# Altium footprint library 制冷系统控制板.PCBLIB: 44 footprints (part 1 of 3)
Each footprint in its own frame and in the unit in brackets; x right, y up, seen from the top. Pads: shape width x height; smd on the part's side, far side on the other; paste and mask are expansions set on the pad; w line width, h text height; cw(c..) or ccw(c..) is an arc to the next point about the centre after c.
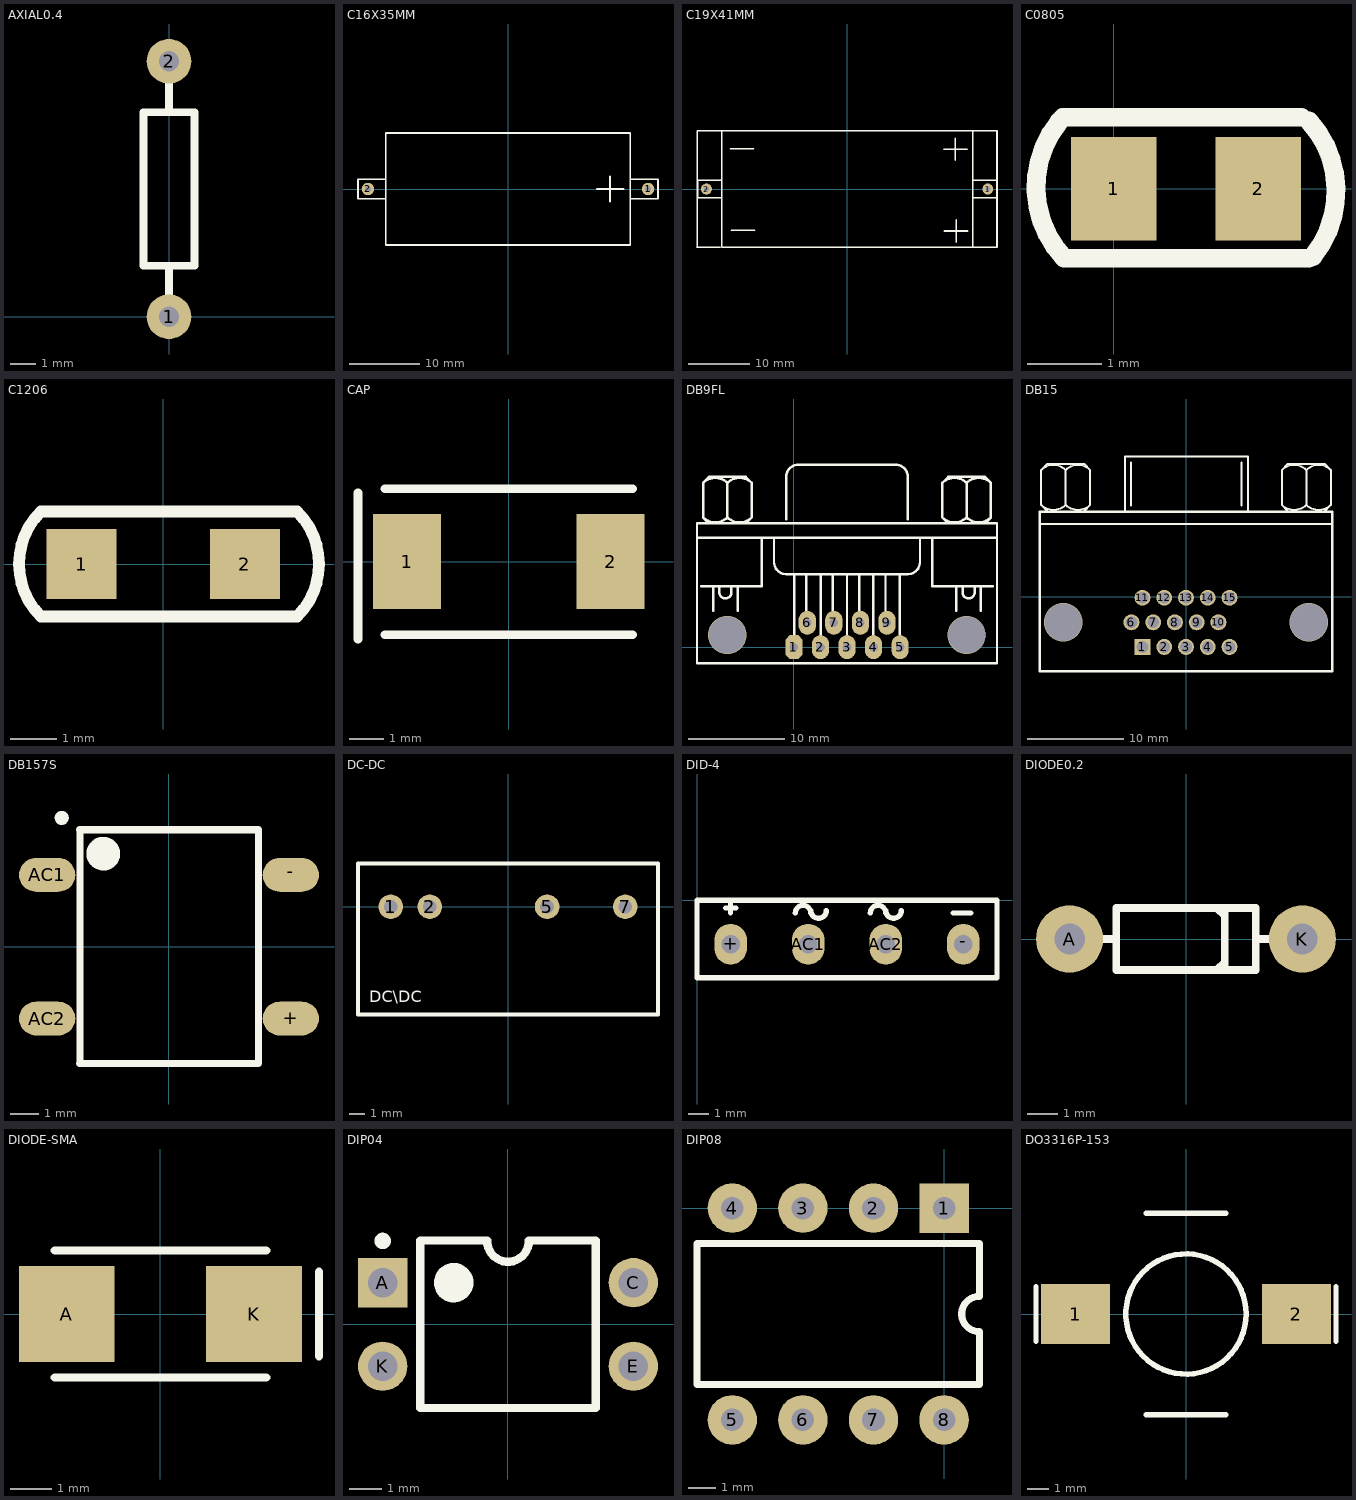
[diagram p0: the footprints below, top view; thin cyan lines are the x and y axes]

## AXIAL0.4 [mil]
pads (2):
  round 70 hole 32: 1(0,0.01) 2(0,400.01)
顶层丝印:
  lines w12: 0,0.01 0,80.01 ; 0,320.01 0,400.01 ; -40,80.01 40,80.01 40,320.01 -40,320.01 -40,80.01

## C16X35MM [mil]
pads (2):
  round 70 hole 32: 1(788.98,0.01) 2(-788.98,0.01)
顶层丝印:
  lines w10: -690,-54.99 -845,-54.99 -845,55.01 -690,55.01 ; 500,0.01 650,0.01 ; 575,-70.86 575,70.88 ; 695,-54.99 845,-54.99 845,55.01 695,55.01 ; -688.98,-314.95 688.98,-314.95 688.98,314.97 -688.98,314.97 -688.98,-314.95

## C19X41MM [mil]
pads (2):
  round 70 hole 32: 1(903.98,0) 2(-903.98,0)
顶层丝印:
  lines w10: -965,-374.99 -815,-374.99 ; -962.09,-374.02 -962.09,374.02 ; -960,375.01 -810,375.01 ; -805,-54.99 -960,-54.99 -960,55.01 -805,55.01 ; -750,260 -600,260 ; -745,-265 -595,-265 ; 620,255 770,255 ; 625,-270 775,-270 ; 695,184.14 695,325.88 ; 700,-340.86 700,-199.12 ; 810,-374.99 960,-374.99 ; 810,-54.99 960,-54.99 960,55.01 810,55.01 ; 810,375.01 960,375.01 ; 962.91,-374.02 962.91,374.02 ; -807.09,-374.02 807.09,-374.02 807.09,374.02 -807.09,374.02 -807.09,-374.02

## C0805 [mm]
pads (2):
  rect 1.152x1.4 smd: 1(0,0) 2(1.956,0)
顶层丝印:
  lines w0.127: 1.422,0.914 2.641,0.914
  lines w0.254: -0.737,0.906 ccw(c0.363,0.022) -0.67,-0.94 2.641,-0.94 ; -0.686,0.965 2.54,0.965 ; 2.641,0.914 cw(c1.593,-0.031) 2.692,-0.915

## C1206 [mil]
pads (2):
  rect 60x60 smd: 1(-70,0.01) 2(70,0.01)
顶层丝印:
  lines w10: -45,-44.99 115,-44.99 ccw(c70,0.01) 115,45.01 40,45.01 ; -40,-44.99 -105,-44.99 cw(c-60,0.01) -105,45.01 45,45.01

## CAP [mm]
pads (2):
  rect 2x2.8 smd: 1(-3,0) 2(3,0)
顶层丝印:
  lines w0.254: -4.445,-2.286 -4.445,2.032 ; -3.65,-2.15 3.65,-2.15 ; -3.65,2.15 3.65,2.15

## DB9FL [mm]
pads (9):
  oct 1.8x2.5 hole 0.9: 1(0,0)
  oval 1.8x2.5 hole 0.9: 2(2.773,0) 3(5.546,0) 4(8.318,0) 5(11.091,0) 6(1.397,2.54) 7(4.17,2.54) 8(6.943,2.54) 9(9.715,2.54)
via 18.034,1.27 diameter 4 hole 3.9
via -6.964,1.27 diameter 4 hole 3.9
顶层丝印:
  lines w0.254: -10.118,11.43 21.209,11.43 ; -9.694,6.35 -3.344,6.35 -3.344,11.43 ; -9.485,13.545 ccw(c-8.213,14.817) -6.94,13.545 ; -9.485,17.147 cw(c-8.213,15.875) -6.94,17.147 ; -8.848,12.912 -9.483,13.547 -9.483,17.145 -8.848,17.78 -5.038,17.78 -4.403,17.145 -4.403,13.547 -5.038,12.912 ; -8.424,3.81 -8.424,6.35 ; -7.789,6.35 -7.789,5.715 ccw(c-7.154,5.715) -6.519,5.715 -6.519,6.35 ; -6.945,13.545 ccw(c-5.673,14.817) -4.4,13.545 ; -6.945,17.147 cw(c-5.673,15.875) -4.4,17.147 ; -6.943,13.547 -6.943,17.145 ; -5.884,3.81 -5.884,6.35 ; -2.074,11.43 -2.074,8.89 ccw(c-0.804,8.89) -0.804,7.62 11.896,7.62 ccw(c11.896,8.89) 13.166,8.89 13.166,11.43 ; -0.804,13.335 -0.804,17.78 cw(c0.466,17.78) 0.466,19.05 10.626,19.05 cw(c10.626,17.78) 11.896,17.78 11.896,13.335 ; 0.042,1.27 0.042,7.62 ; 1.312,3.81 1.312,7.62 ; 2.794,1.27 2.794,7.62 ; 4.064,3.81 4.064,7.62 ; 5.546,1.27 5.546,7.62 ; 6.816,3.81 6.816,7.62 ; 8.297,1.27 8.297,7.62 ; 9.567,3.81 9.567,7.62 ; 11.049,1.27 11.049,7.62 ; 14.436,11.43 14.436,6.35 20.786,6.35 ; 15.492,13.545 ccw(c16.764,14.817) 18.036,13.545 ; 15.492,17.147 cw(c16.764,15.875) 18.036,17.147 ; 16.129,12.912 15.494,13.547 15.494,17.145 16.129,17.78 19.939,17.78 20.574,17.145 20.574,13.547 19.939,12.912 ; 16.976,3.81 16.976,6.35 ; 17.611,6.35 17.611,5.715 ccw(c18.246,5.715) 18.881,5.715 18.881,6.35 ; 18.032,13.545 ccw(c19.304,14.817) 20.576,13.545 ; 18.032,17.147 cw(c19.304,15.875) 20.576,17.147 ; 18.034,13.547 18.034,17.145 ; 19.516,3.81 19.516,6.35 ; -10.118,-1.693 21.209,-1.693 21.209,12.912 -10.118,12.912 -10.118,-1.693

## DB15 [mil]
pads (15):
  rect 65x65 hole 48: 1(-178.16,-205)
  round 65 hole 48: 2(-89.58,-205) 3(-1,-205) 4(87.58,-205) 5(176.16,-205) 6(-223.17,-105) 7(-134.58,-105) 8(-46,-105) 9(42.58,-105) 10(131.16,-105) 11(-178.16,-5) 12(-89.58,-5) 13(-1,-5) 14(87.58,-5) 15(176.16,-5)
via 499,-105 diameter 157.48 hole 153.54
via -501,-105 diameter 157.48 hole 153.54
顶层丝印:
  lines w8: -597.25,295 594,295 ; -591.09,373.25 ccw(c-541,423.33) -490.91,373.25 ; -591.09,515.09 cw(c-541,465) -490.91,515.09 ; -566,348.33 -591,373.33 -591,515 -566,540 -416,540 -391,515 -391,373.33 -416,348.33 ; -491.09,373.25 ccw(c-441,423.33) -390.91,373.25 ; -491.09,515.09 cw(c-441,465) -390.91,515.09 ; -491,373.33 -491,515 ; -249.33,345 -249.33,570 250.67,570 250.67,345 ; -224.33,370 -224.33,545 ; 225.67,370 225.67,545 ; 388.91,373.25 ccw(c439,423.33) 489.09,373.25 ; 388.91,515.09 cw(c439,465) 489.09,515.09 ; 414,348.33 389,373.33 389,515 414,540 564,540 589,515 589,373.33 564,348.33 ; 488.91,373.25 ccw(c539,423.33) 589.09,373.25 ; 488.91,515.09 cw(c539,465) 589.09,515.09 ; 489,373.33 489,515
  lines w10: -596,-305 -596,345 594,345 594,-305 -596,-305

## DB157S [mm]
pads (4):
  oval 2x1.2 smd: +(4.325,-2.55) -(4.325,2.55) AC1(-4.325,2.55) AC2(-4.325,-2.55)
顶层丝印:
  circle w0.25: c-3.808,4.572 r0.125
  circle w0.6: c-2.332,3.302 r0.3
  lines w0.254: -3.175,-4.15 3.175,-4.15 3.175,4.15 -3.175,4.15 ; -3.157,-4.15 -3.157,4.15

## DC-DC [mm]
pads (4):
  round 1.6 hole 0.889: 1(-7.62,0) 2(-5.08,0) 5(2.54,0) 7(7.62,0)
顶层丝印:
  lines w0.254: -9.75,-7 -9.75,2.8 9.75,2.8 9.75,-7 -9.75,-7
  text "DC\DC" at -9.017,-6.223 h0.76

## DID-4 [mm]
pads (4):
  oval 1.6x2 hole 0.9: +(1.651,-2.159) -(13.081,-2.159) AC1(5.461,-2.159) AC2(9.271,-2.159)
顶层丝印:
  lines w0.254: 1.397,-0.381 1.905,-0.381 ; 1.651,-0.635 1.651,-0.127 ; 4.826,-0.635 cw(c5.207,-0.635) 5.588,-0.635 ; 5.588,-0.508 ccw(c5.969,-0.508) 6.35,-0.508 ; 8.509,-0.635 cw(c8.89,-0.635) 9.271,-0.635 ; 9.271,-0.508 ccw(c9.652,-0.508) 10.033,-0.508 ; 12.573,-0.635 13.462,-0.635 ; 0,-3.81 14.732,-3.81 14.732,0 0,0 0,-3.81

## DIODE0.2 [mm]
pads (2):
  round 2.2 hole 1: A(-3.81,0) K(3.81,0)
顶层丝印:
  lines w0.254: -3.81,0 -2.286,0 ; 1.016,-1.016 1.27,-0.762 ; 1.016,1.016 1.27,0.762 ; 1.27,-1.016 1.27,1.016 ; 2.286,0 3.81,0 ; -2.286,-1.016 -2.286,1.016 2.286,1.016 2.286,-1.016 -2.286,-1.016

## DIODE-SMA [mm]
pads (2):
  rect 2.3x2.3 smd: A(-2.25,0) K(2.25,0)
顶层丝印:
  lines w0.2: -2.54,-1.524 2.54,-1.524 ; -2.54,1.524 2.54,1.524 ; 3.81,-1.016 3.81,1.016

## DIP04 [mm]
pads (4):
  rect 1.5x1.5 hole 0.9: A(-3.798,1.27)
  round 1.5 hole 0.9: C(3.822,1.27) E(3.822,-1.27) K(-3.798,-1.27)
顶层丝印:
  circle w0.25: c-3.798,2.54 r0.125
  circle w0.6: c-1.639,1.27 r0.3
  lines w0.254: -0.623,2.54 ccw(c0.012,2.54) 0.647,2.54 ; -0.623,2.55 -2.655,2.55 -2.655,-2.54 2.679,-2.54 2.679,2.55 0.647,2.55

## DIP08 [mil]
pads (8):
  rect 70x70 hole 32: 1(0,0.01)
  round 70 hole 32: 2(-100,0.01) 3(-200,0.01) 4(-300,0.01) 5(-300,-299.99) 6(-200,-299.99) 7(-100,-299.99) 8(0,-299.99)
顶层丝印:
  lines w10: -350,-249.99 -350,-49.99 50,-49.99 50,-124.99 ccw(c50,-149.99) 50,-174.99 50,-249.99 -350,-249.99

## DO3316P-153 [mm]
pads (2):
  rect 3.2x2.79 smd: 1(-5.145,0) 2(5.145,0)
顶层丝印:
  circle w0.254: c0,0 r2.8
  lines w0.254: -6.985,-1.27 -6.985,1.27 ; -1.845,-4.7 1.845,-4.7 ; -1.845,4.7 1.845,4.7 ; 6.985,-1.27 6.985,1.27